# EAGLE library part STM32_DEV_BOARD (library darknet_parts_library)
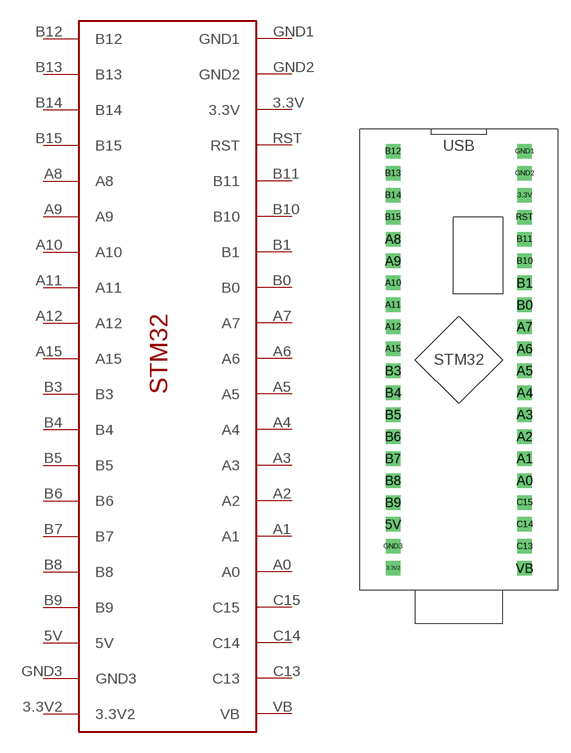
[diagram p3: symbol with the pads of STM32_DEV_BOARD; footprint STM32_DEV_BOARD]

Designator prefix -

## STM32_DEV_BOARDSTM32_DEV_BOARD  [STM32_DEV_BOARD]
3.3V  3.3V
3.3V2  3.3V2
5V  5V
A0  A0
A1  A1
A2  A2
A3  A3
A4  A4
A5  A5
A6  A6
A7  A7
A8  A8
A9  A9
A10  A10
A11  A11
A12  A12
A15  A15
B0  B0
B1  B1
B3  B3
B4  B4
B5  B5
B6  B6
B7  B7
B8  B8
B9  B9
B10  B10
B11  B11
B12  B12
B13  B13
B14  B14
B15  B15
C13  C13
C14  C14
C15  C15
GND1  GND1
GND2  GND2
GND3  GND3
RST  RST
VB  VB

## Footprint STM32_DEV_BOARD (pad centres in mm)
drill 1 pad 1.676 square: 3.3V 15.24,-5.08; 3.3V2 0,-48.26; 5V 0,-43.18; A0 15.24,-38.1; A1 15.24,-35.56; A2 15.24,-33.02; A3 15.24,-30.48; A4 15.24,-27.94; A5 15.24,-25.4; A6 15.24,-22.86; A7 15.24,-20.32; A8 0,-10.16; A9 0,-12.7; A10 0,-15.24; A11 0,-17.78; A12 0,-20.32; A15 0,-22.86; B0 15.24,-17.78; B1 15.24,-15.24; B3 0,-25.4; B4 0,-27.94; B5 0,-30.48; B6 0,-33.02; B7 0,-35.56; B8 0,-38.1; B9 0,-40.64; B10 15.24,-12.7; B11 15.24,-10.16; B12 0,0; B13 0,-2.54; B14 0,-5.08; B15 0,-7.62; C13 15.24,-45.72; C14 15.24,-43.18; C15 15.24,-40.64; GND1 15.24,0; GND2 15.24,-2.54; GND3 0,-45.72; RST 15.24,-7.62; VB 15.24,-48.26